# Altium footprint library IPC.PcbLib: 87 footprints (part 1 of 6)
Each footprint in its own frame and in the unit in brackets; x right, y up, seen from the top. Pads: shape width x height; smd on the part's side, far side on the other; paste and mask are expansions set on the pad; w line width, h text height; cw(c..) or ccw(c..) is an arc to the next point about the centre after c.
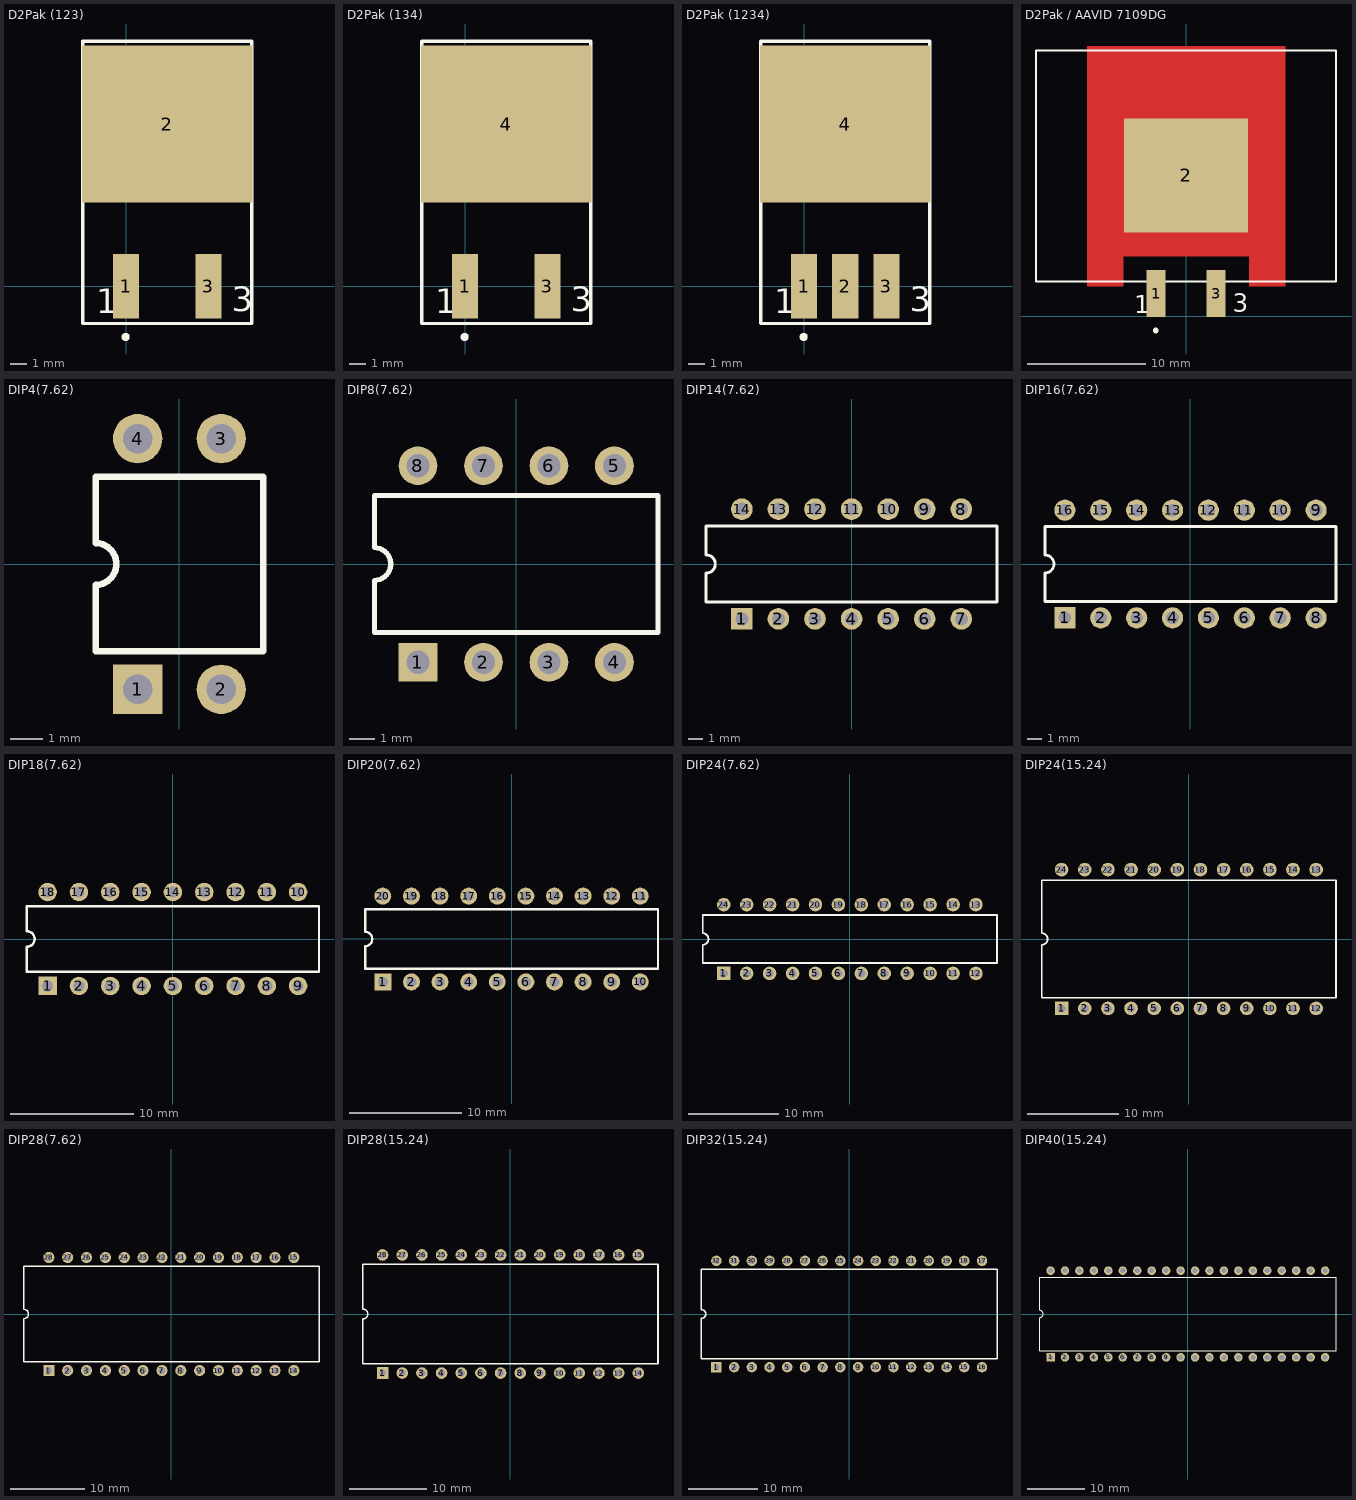
[diagram p0: the footprints below, top view; thin cyan lines are the x and y axes]

## D2Pak (123) [mm] "D2-PAK; 3 Leads (1 Cropped); Body 15.2 (inc. leads) x 10.9 mm (LxW max)"
height 4.83
pads (3):
  rect 1.61x4 smd: 1(0,0) 3(5.08,0)
  rect 10.49x9.68 smd: 2(2.54,10)
Top Overlay:
  circle w0.25: c-0.023,-3.124 r0.125
  lines w0.2: -2.667,-2.286 -2.667,15.113 7.747,15.113 7.747,-2.286 -2.667,-2.286
  text "1" at -1.829,-1.651 h1.5
  text "3" at 6.502,-1.549 h1.5
3D body: height 4.6, standoff -0.01, extent -2.66,-1.803 7.74,14.047

## D2Pak (134) [mm] "D2-PAK; 3 Leads (1 Cropped); Body 15.2 (inc. leads) x 10.9 mm (LxW max)"
height 4.83
pads (3):
  rect 1.61x4 smd: 1(0,0) 3(5.08,0)
  rect 10.49x9.68 smd: 4(2.54,10)
Top Overlay:
  circle w0.25: c-0.023,-3.124 r0.125
  lines w0.2: -2.667,-2.286 7.747,-2.286 7.747,15.113 -2.667,15.113 -2.667,-2.286
  text "3" at 6.502,-1.549 h1.5
  text "1" at -1.829,-1.651 h1.5
3D body: height 4.6, standoff -0.01, extent -2.66,-1.803 7.74,14.047

## D2Pak (1234) [mm] "D2-PAK; 3 Leads (1 Cropped); Body 15.2 (inc. leads) x 10.9 mm (LxW max)"
height 4.83
pads (4):
  rect 1.61x4 smd: 1(0,0) 2(2.54,0) 3(5.08,0)
  rect 10.49x9.68 smd: 4(2.54,10)
Top Overlay:
  circle w0.25: c-0.023,-3.124 r0.125
  lines w0.2: -2.667,-2.286 7.747,-2.286 7.747,15.113 -2.667,15.113 -2.667,-2.286
  text "3" at 6.502,-1.549 h1.5
  text "1" at -1.829,-1.651 h1.5
3D body: height 4.78, standoff -0.02, extent -2.46,-1.397 7.54,14.273

## D2Pak / AAVID 7109DG [mm] "D2-PAK; 3 Leads (1 Cropped); Body 15.2 (inc. leads) x 10.9 mm (LxW max)"
height 4.83
pads (3):
  rect 1.61x4 smd: 1(-2.54,1.905) 3(2.54,1.905)
  rect 10.49x9.68 smd: 2(0,11.905)
Top Layer:
  region: -5.334,5.08 5.334,5.08 5.334,2.54 8.382,2.54 8.382,22.86 -8.382,22.86 -8.382,2.54 -5.334,2.54
Top Overlay:
  circle w0.25: c-2.563,-1.219 r0.125
  lines w0.2: -12.7,2.921 -12.7,22.479 12.7,22.479 12.7,2.921 -12.7,2.921
  text "1" at -4.369,0.254 h1.5
  text "3" at 3.962,0.356 h1.5
3D body: height 11.43, standoff 0, extent 7.621,2.922 12.699,22.478
3D body: height 11.43, standoff 0, extent -12.699,2.922 -7.621,22.478
3D body: height 4.6, standoff -0.01, extent -5.2,0.102 5.2,15.952

## DIP4(7.62) [mm] "DIP; 4 Leads; Row Spacing 7.62 mm; Pitch 2.54 mm"
height 5.6
pads (4):
  rect 1.5x1.5 hole 0.9: 1(-1.27,-3.81)
  round 1.5 hole 0.9: 2(1.27,-3.81) 3(1.27,3.81) 4(-1.27,3.81)
Top Overlay:
  lines w0.2: -2.55,-2.65 2.55,-2.65 2.55,2.65 -2.55,2.65 -2.55,0.635 cw(c-2.55,0) -2.55,-0.635 -2.55,-2.65

## DIP8(7.62) [mm] "DIP; 8 Leads; Row Spacing 7.62 mm; Pitch 2.54 mm"
height 5.08
pads (8):
  rect 1.5x1.5 hole 0.9: 1(-3.81,-3.81)
  round 1.5 hole 0.9: 2(-1.27,-3.81) 3(1.27,-3.81) 4(3.81,-3.81) 5(3.81,3.81) 6(1.27,3.81) 7(-1.27,3.81) 8(-3.81,3.81)
Top Overlay:
  lines w0.2: -5.5,-2.65 5.5,-2.65 5.5,2.65 -5.5,2.65 -5.5,0.635 cw(c-5.5,0) -5.5,-0.635 -5.5,-2.65

## DIP14(7.62) [mm] "DIP; 14 Leads; Row Spacing 7.62 mm; Pitch 2.54 mm"
height 5.08
pads (14):
  rect 1.5x1.5 hole 0.9: 1(-7.62,-3.81)
  round 1.5 hole 0.9: 2(-5.08,-3.81) 3(-2.54,-3.81) 4(0,-3.81) 5(2.54,-3.81) 6(5.08,-3.81) 7(7.62,-3.81) 8(7.62,3.81) 9(5.08,3.81) 10(2.54,3.81) 11(0,3.81) 12(-2.54,3.81) 13(-5.08,3.81) 14(-7.62,3.81)
Top Overlay:
  lines w0.2: -10.1,-2.65 10.1,-2.65 10.1,2.65 -10.1,2.65 -10.1,0.635 cw(c-10.1,0) -10.1,-0.635 -10.1,-2.65

## DIP16(7.62) [mm] "DIP; 16 Leads; Row Spacing 7.62 mm; Pitch 2.54 mm"
height 5.1
pads (16):
  rect 1.5x1.5 hole 0.9: 1(-8.89,-3.81)
  round 1.5 hole 0.9: 2(-6.35,-3.81) 3(-3.81,-3.81) 4(-1.27,-3.81) 5(1.27,-3.81) 6(3.81,-3.81) 7(6.35,-3.81) 8(8.89,-3.81) 9(8.89,3.81) 10(6.35,3.81) 11(3.81,3.81) 12(1.27,3.81) 13(-1.27,3.81) 14(-3.81,3.81) 15(-6.35,3.81) 16(-8.89,3.81)
Top Overlay:
  lines w0.2: -10.3,-2.65 -10.3,-0.635 ccw(c-10.3,0) -10.3,0.635 -10.3,2.65 10.3,2.65 10.3,-2.65 -10.3,-2.65
3D body: height 5.08, standoff -2.49, extent -10.058,-3.937 9.942,3.933

## DIP18(7.62) [mm] "DIP; 18 Leads; Row Spacing 7.62 mm; Pitch 2.54 mm"
height 3.93
pads (18):
  rect 1.5x1.5 hole 0.9: 1(-10.16,-3.81)
  round 1.5 hole 0.9: 2(-7.62,-3.81) 3(-5.08,-3.81) 4(-2.54,-3.81) 5(0,-3.81) 6(2.54,-3.81) 7(5.08,-3.81) 8(7.62,-3.81) 9(10.16,-3.81) 10(10.16,3.81) 11(7.62,3.81) 12(5.08,3.81) 13(2.54,3.81) 14(0,3.81) 15(-2.54,3.81) 16(-5.08,3.81) 17(-7.62,3.81) 18(-10.16,3.81)
Top Overlay:
  lines w0.2: -11.85,-2.65 -11.85,-0.635 ccw(c-11.85,0) -11.85,0.635 -11.85,2.65 11.85,2.65 11.85,-2.65 -11.85,-2.65

## DIP20(7.62) [mm] "DIP; 20 Leads; Row Spacing 7.62 mm; Pitch 2.54 mm"
height 3.93
pads (20):
  rect 1.5x1.5 hole 0.9: 1(-11.43,-3.81)
  round 1.5 hole 0.9: 2(-8.89,-3.81) 3(-6.35,-3.81) 4(-3.81,-3.81) 5(-1.27,-3.81) 6(1.27,-3.81) 7(3.81,-3.81) 8(6.35,-3.81) 9(8.89,-3.81) 10(11.43,-3.81) 11(11.43,3.81) 12(8.89,3.81) 13(6.35,3.81) 14(3.81,3.81) 15(1.27,3.81) 16(-1.27,3.81) 17(-3.81,3.81) 18(-6.35,3.81) 19(-8.89,3.81) 20(-11.43,3.81)
Top Overlay:
  lines w0.2: -13,-2.65 -13,-0.635 ccw(c-13,0) -13,0.635 -13,2.65 13,2.65 13,-2.65 -13,-2.65

## DIP24(7.62) [mm] "DIP; 24 Leads; Row Spacing 7.62 mm; Pitch 2.54 mm"
height 4.32
pads (24):
  rect 1.5x1.5 hole 0.9: 1(-13.97,-3.81)
  round 1.5 hole 0.9: 2(-11.43,-3.81) 3(-8.89,-3.81) 4(-6.35,-3.81) 5(-3.81,-3.81) 6(-1.27,-3.81) 7(1.27,-3.81) 8(3.81,-3.81) 9(6.35,-3.81) 10(8.89,-3.81) 11(11.43,-3.81) 12(13.97,-3.81) 13(13.97,3.81) 14(11.43,3.81) 15(8.89,3.81) 16(6.35,3.81) 17(3.81,3.81) 18(1.27,3.81) 19(-1.27,3.81) 20(-3.81,3.81) 21(-6.35,3.81) 22(-8.89,3.81) 23(-11.43,3.81) 24(-13.97,3.81)
Top Overlay:
  lines w0.2: -16.3,-2.65 16.3,-2.65 16.3,2.65 -16.3,2.65 -16.3,0.635 cw(c-16.3,0) -16.3,-0.635 -16.3,-2.65

## DIP24(15.24) [mm] "Ceramic Frit-seal DIP, Window; 24 Leads; Row Spacing 15.24 mm; Pitch 2.54 mm"
height 5.71
pads (24):
  rect 1.5x1.5 hole 0.9: 1(-13.97,-7.62)
  round 1.5 hole 0.9: 2(-11.43,-7.62) 3(-8.89,-7.62) 4(-6.35,-7.62) 5(-3.81,-7.62) 6(-1.27,-7.62) 7(1.27,-7.62) 8(3.81,-7.62) 9(6.35,-7.62) 10(8.89,-7.62) 11(11.43,-7.62) 12(13.97,-7.62) 13(13.97,7.62) 14(11.43,7.62) 15(8.89,7.62) 16(6.35,7.62) 17(3.81,7.62) 18(1.27,7.62) 19(-1.27,7.62) 20(-3.81,7.62) 21(-6.35,7.62) 22(-8.89,7.62) 23(-11.43,7.62) 24(-13.97,7.62)
Top Overlay:
  lines w0.2: -16.15,-6.45 16.15,-6.45 16.15,6.45 -16.15,6.45 -16.15,0.635 cw(c-16.15,0) -16.15,-0.635 -16.15,-6.45

## DIP28(7.62) [mm] "DIP; 28 Leads; Row Spacing 15.24 mm; Pitch 2.54 mm"
height 6.35
pads (28):
  rect 1.5x1.5 hole 0.9: 1(-16.51,-7.62)
  round 1.5 hole 0.9: 2(-13.97,-7.62) 3(-11.43,-7.62) 4(-8.89,-7.62) 5(-6.35,-7.62) 6(-3.81,-7.62) 7(-1.27,-7.62) 8(1.27,-7.62) 9(3.81,-7.62) 10(6.35,-7.62) 11(8.89,-7.62) 12(11.43,-7.62) 13(13.97,-7.62) 14(16.51,-7.62) 15(16.51,7.62) 16(13.97,7.62) 17(11.43,7.62) 18(8.89,7.62) 19(6.35,7.62) 20(3.81,7.62) 21(1.27,7.62) 22(-1.27,7.62) 23(-3.81,7.62) 24(-6.35,7.62) 25(-8.89,7.62) 26(-11.43,7.62) 27(-13.97,7.62) 28(-16.51,7.62)
Top Overlay:
  lines w0.2: -19.9,-6.45 19.9,-6.45 19.9,6.45 -19.9,6.45 -19.9,0.635 cw(c-19.9,0) -19.9,-0.635 -19.9,-6.45

## DIP28(15.24) [mm] "Ceramic Frit-seal DIP, Window; 28 Leads; Row Spacing 15.24 mm; Pitch 2.54 mm"
height 5.71
pads (28):
  rect 1.5x1.5 hole 0.9: 1(-16.51,-7.62)
  round 1.5 hole 0.9: 2(-13.97,-7.62) 3(-11.43,-7.62) 4(-8.89,-7.62) 5(-6.35,-7.62) 6(-3.81,-7.62) 7(-1.27,-7.62) 8(1.27,-7.62) 9(3.81,-7.62) 10(6.35,-7.62) 11(8.89,-7.62) 12(11.43,-7.62) 13(13.97,-7.62) 14(16.51,-7.62) 15(16.51,7.62) 16(13.97,7.62) 17(11.43,7.62) 18(8.89,7.62) 19(6.35,7.62) 20(3.81,7.62) 21(1.27,7.62) 22(-1.27,7.62) 23(-3.81,7.62) 24(-6.35,7.62) 25(-8.89,7.62) 26(-11.43,7.62) 27(-13.97,7.62) 28(-16.51,7.62)
Top Overlay:
  lines w0.2: -19.05,-6.45 -19.05,-0.635 ccw(c-19.05,0) -19.05,0.635 -19.05,6.45 19.05,6.45 19.05,-6.45 -19.05,-6.45

## DIP32(15.24) [mm] "Ceramic Frit-seal DIP, Window; 32 Leads; Row Spacing 15.24 mm; Pitch 2.54 mm"
height 5.72
pads (32):
  rect 1.5x1.5 hole 0.9: 1(-19.05,-7.62)
  round 1.5 hole 0.9: 2(-16.51,-7.62) 3(-13.97,-7.62) 4(-11.43,-7.62) 5(-8.89,-7.62) 6(-6.35,-7.62) 7(-3.81,-7.62) 8(-1.27,-7.62) 9(1.27,-7.62) 10(3.81,-7.62) 11(6.35,-7.62) 12(8.89,-7.62) 13(11.43,-7.62) 14(13.97,-7.62) 15(16.51,-7.62) 16(19.05,-7.62) 17(19.05,7.62) 18(16.51,7.62) 19(13.97,7.62) 20(11.43,7.62) 21(8.89,7.62) 22(6.35,7.62) 23(3.81,7.62) 24(1.27,7.62) 25(-1.27,7.62) 26(-3.81,7.62) 27(-6.35,7.62) 28(-8.89,7.62) 29(-11.43,7.62) 30(-13.97,7.62) 31(-16.51,7.62) 32(-19.05,7.62)
Top Overlay:
  lines w0.2: -21.2,-6.45 21.2,-6.45 21.2,6.45 -21.2,6.45 -21.2,0.635 cw(c-21.2,0) -21.2,-0.635 -21.2,-6.45

## DIP40(15.24) [mm] "DIP, Ceramic, Window; 40 Leads; Row Spacing 15.24 mm; Pitch 2.54 mm"
height 5
pads (40):
  rect 1.5x1.5 hole 0.9: 1(-24.13,-7.62)
  round 1.5 hole 0.9: 2(-21.59,-7.62) 3(-19.05,-7.62) 4(-16.51,-7.62) 5(-13.97,-7.62) 6(-11.43,-7.62) 7(-8.89,-7.62) 8(-6.35,-7.62) 9(-3.81,-7.62) 10(-1.27,-7.62) 11(1.27,-7.62) 12(3.81,-7.62) 13(6.35,-7.62) 14(8.89,-7.62) 15(11.43,-7.62) 16(13.97,-7.62) 17(16.51,-7.62) 18(19.05,-7.62) 19(21.59,-7.62) 20(24.13,-7.62) 21(24.13,7.62) 22(21.59,7.62) 23(19.05,7.62) 24(16.51,7.62) 25(13.97,7.62) 26(11.43,7.62) 27(8.89,7.62) 28(6.35,7.62) 29(3.81,7.62) 30(1.27,7.62) 31(-1.27,7.62) 32(-3.81,7.62) 33(-6.35,7.62) 34(-8.89,7.62) 35(-11.43,7.62) 36(-13.97,7.62) 37(-16.51,7.62) 38(-19.05,7.62) 39(-21.59,7.62) 40(-24.13,7.62)
Top Overlay:
  lines w0.2: -26.05,-6.45 -26.05,-0.635 ccw(c-26.05,0) -26.05,0.635 -26.05,6.45 26.05,6.45 26.05,-6.45 -26.05,-6.45
3D body: height 5.7, standoff -2.58, extent -26.264,-7.696 26.186,7.794